# Altium footprint library EG1215.PcbLib: 1 footprints
Each footprint in its own frame and in the unit in brackets; x right, y up, seen from the top. Pads: shape width x height; smd on the part's side, far side on the other; paste and mask are expansions set on the pad; w line width, h text height; cw(c..) or ccw(c..) is an arc to the next point about the centre after c.
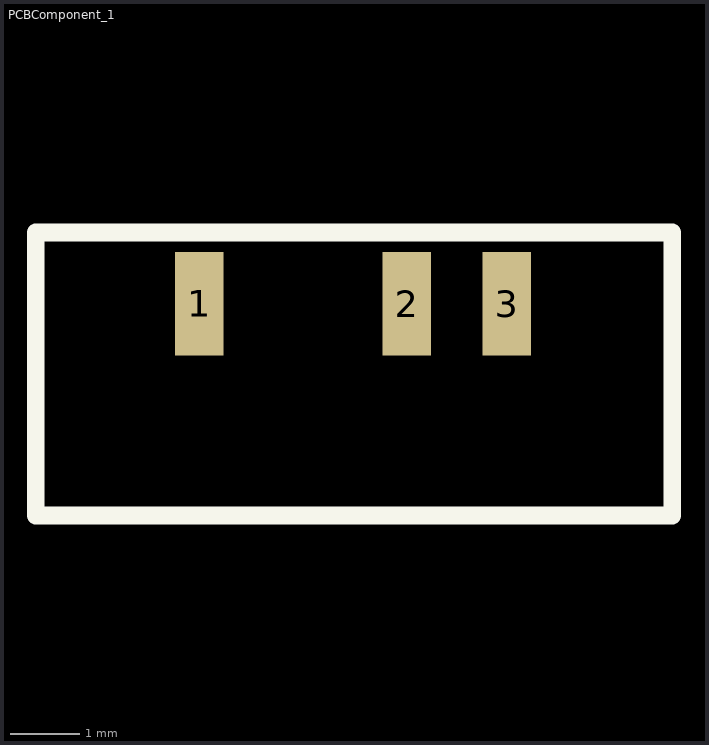
[diagram p0: the footprint, top view; thin cyan lines are the x and y axes]

## PCBComponent_1 [mm]
pads (9):
  rect 0.7x1.5 smd: 1(-389.382,258.382) 2(-386.385,258.382) 3(-384.937,258.382)
  round 0.9 on Top Solder: 8(-388.62,256.667) 9(-385.623,256.667)
  rect 1x0.8 on Top Paste: MP1(-390.728,257.581) MP2(-390.728,256.108) MP3(-383.515,257.581) MP4(-383.515,256.108)
Top Overlay:
  lines w0.254: -391.744,255.321 -391.744,259.41 -382.549,259.41 -382.549,255.321 -391.693,255.321